# Altium schematic symbol library VNQ5027AK.SchLib: 1 symbol
Pins are listed as number, name and electrical type; pins without a type are passive.

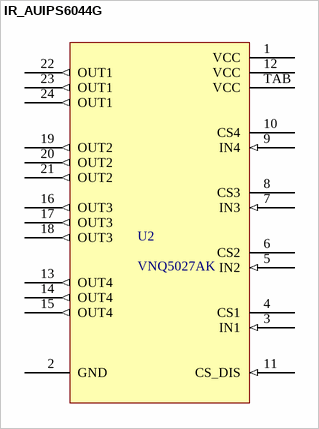
[diagram p0: symbol IR_AUIPS6044G]

## IR_AUIPS6044G
designator U2, comment VNQ5027AK
High Side Switch; PartNr: 511-VNQ5027AKTR-E; Distributor: Mouser
pins: 1 VCC (power), 2 GND (power), 3 IN1 (in), 4 CS1, 5 IN2 (in), 6 CS2, 7 IN3 (in), 8 CS3, 9 IN4 (in), 10 CS4, 11 CS_DIS (in), 12 VCC (power), 13 OUT4 (out), 14 OUT4 (out), 15 OUT4 (out), 16 OUT3 (out), 17 OUT3 (out), 18 OUT3 (out), 19 OUT2 (out), 20 OUT2 (out), 21 OUT2 (out), 22 OUT1 (out), 23 OUT1 (out), 24 OUT1 (out), TAB VCC (power)